# EAGLE library part 74LVC541A (library SparkFun-IC-Logic)
74LVC541A IC OCTAL BUFFER, SCHMITT TRIGGER The 74LVC541A is an 8-bit buffer/line driver with 3-state outputs. The device features two output enables (OE1 and OE2). A HIGH on OEn causes the associated outputs to assume a high-impedance OFF-state . Inputs can be driven from either 3.3 V or 5 V devices. This feature allows the use of these devices as translators in mixed 3.3 V and 5 V environments. SparkFun Products: MicroMod Function u-blox ZED-F9P board
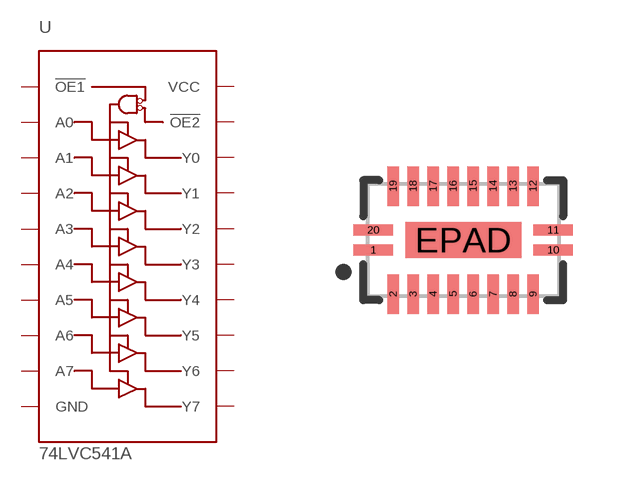
[diagram p11: symbol with the pads of DHVQFN20; footprint DHVQFN20]

Designator prefix U

## 74LVC541ABQ (PROD_ID: IC-16698; VALUE: 74LVC541A)  [DHVQFN20]
1  !OE1!  in
2  A0  in
3  A1  in
4  A2  in
5  A3  in
6  A4  in
7  A5  in
8  A6  in
9  A7  in
10  GND  pwr
11  Y7  out
12  Y6  out
13  Y5  out
14  Y4  out
15  Y3  out
16  Y2  out
17  Y1  out
18  Y0  out
19  !OE2!  in
20  VCC  pwr
EPAD  GND  pwr

## Footprint DHVQFN20 (pad centres in mm)
DHVQFN20 - 20-pin plastic, leadless, very thin quad flat package Mechanical Specifications: Pad Size: 0.29mm x 0.9mm Pin count: 20 Pin pitch: 0.5mm Package Size: 2.5mm x 4.5mm Datasheet referenced for footprint <https://assets.nexperia.com/documents/package-information/SOT764-1.pdf> Example device(s): 74LVC541A
smd 0.99 x 0.28: 1 -2.25,-0.25; 10 2.25,-0.25; 11 2.25,0.25; 20 -2.25,0.25
smd 0.28 x 0.99: 2 -1.75,-1.35; 3 -1.25,-1.35; 4 -0.75,-1.35; 5 -0.25,-1.35; 6 0.25,-1.35; 7 0.75,-1.35; 8 1.25,-1.35; 9 1.75,-1.35; 12 1.75,1.35; 13 1.25,1.35; 14 0.75,1.35; 15 0.25,1.35; 16 -0.25,1.35; 17 -0.75,1.35; 18 -1.25,1.35; 19 -1.75,1.35
smd 2.9 x 0.9: EPAD 0,0